# Altium schematic symbol library Schlib1.SchLib: 390 symbols (part 5 of 5)
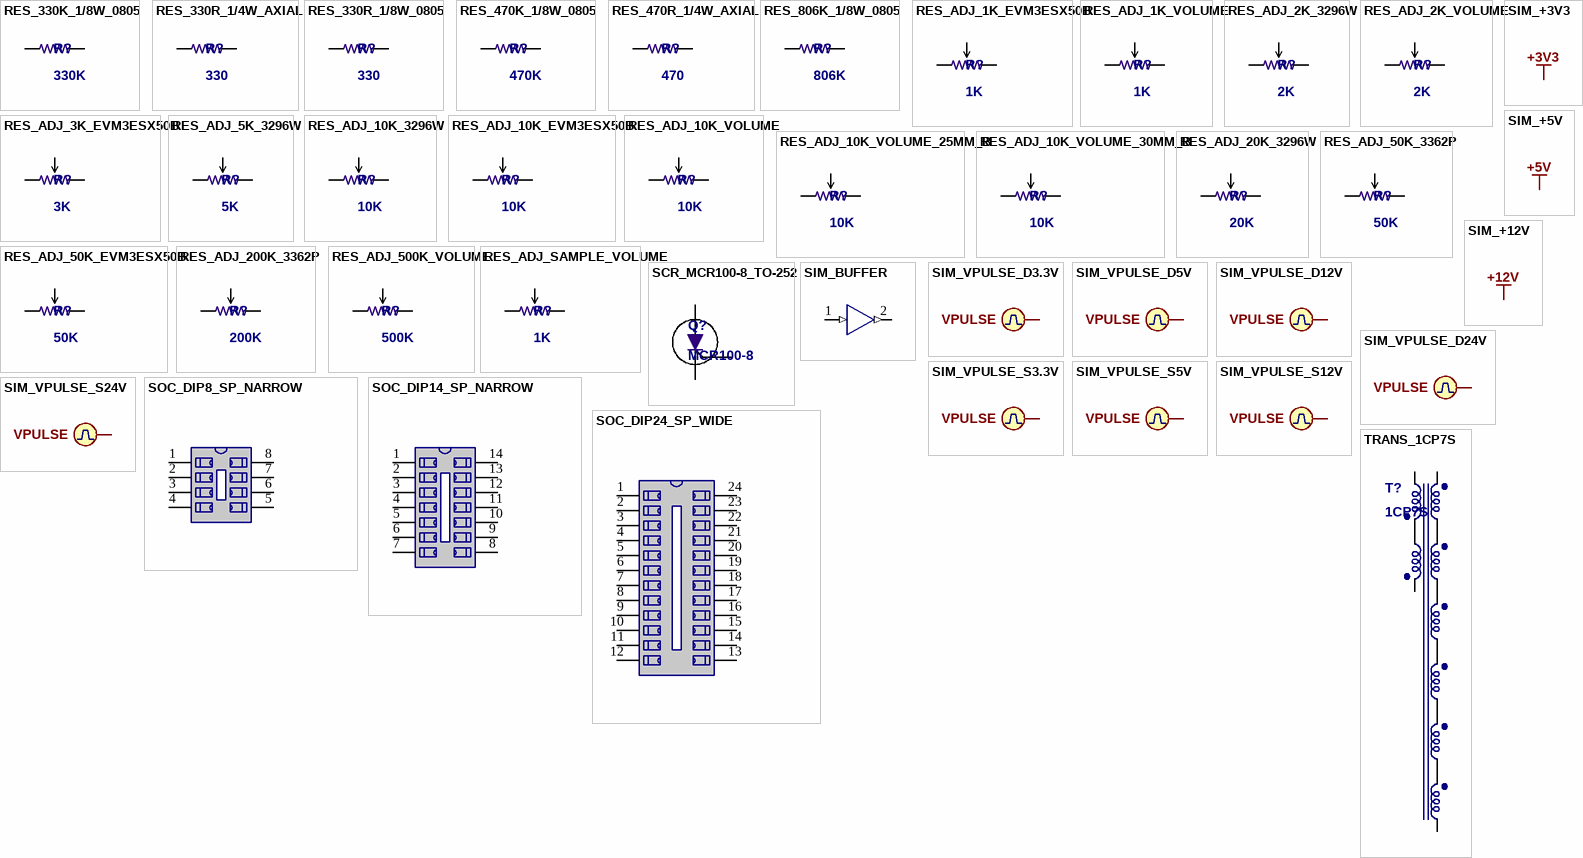
[diagram p14: symbols RES_330K_1/8W_0805 to TRANS_1CP7S]

## RES_ADJ_10K_EVM3ESX50B
designator R?, comment 10K
3mm Square Trimmer Potentiometers, Vmax 50V, Pmax 0.15W; Container: Resistors_Box; Label: EVM3ESX50B14 - 10K; Set Position: 0; Price: 0.067; Package: SMD; Stock: 10; Manufacturer: https://shopee.vn/Set-10-%C4%90i%E1%BB%87n-Tr%E1%BB%9F-3*3-Chuy%C3%AAn-D%E1%BB%A5ng-SMD-3X3-100-500-1K-2K-5K-10K-20K-50K-100K-1M-ohm-i.778834786.20705406854; Temperature Range: -40 to +100 degC; ComponentLink1Description: Datasheet; ComponentLink1URL: E:\NEW_DATA\ELECTRONIC_DOCUMENT\DATASHEET\EVM3ESX50Bxx_Panasonic.pdf; Value: 10K
footprint RES_ADJ_EVM3ESX50B (Variable Resistor)
simulation model RES_ADJ
pins: 1, 2, 3

## RES_ADJ_10K_VOLUME
designator R?, comment 10K
ROTARY POTENTIOMETER (VOLUME CONTROL), Vmax 200V; Container: Resistors_Box; Label: VAR_RES; Set Position: 0; Price: 0.16; Package: TH; Stock: 3; Manufacturer: https://shopee.vn/-3-chi%E1%BA%BFc-(F32)-Bi%E1%BA%BFn-tr%E1%BB%9F-Volume-%C4%91%C6%A1n-(1K-10K-100K)-Ch%E1%BB%8Dn-Lo%E1%BA%A1i--i.29971197.1601313054?sp_atk=a965a421-711c-4c2d-8365-31f56b99aecb&xptdk=a965a421-711c-4c2d-8365-31f56b99aecb; Temperature Range: -40 to +100 degC; ComponentLink1Description: Datasheet; ComponentLink1URL: E:\NEW_DATA\ELECTRONIC_DOCUMENT\DATASHEET\588.pdf; Value: 10K
footprint RES_ADJ_VOLUME
simulation model RES_ADJ
pins: 1, 2, 3

## RES_ADJ_10K_VOLUME_25MM_B
designator R?, comment 10K
ROTARY POTENTIOMETER (VOLUME CONTROL), Vmax 200V; Container: Resistors_Box; Label: VAR_RES; Set Position: 0; Price: 1.21; Package: TH; Stock: 0; Temperature Range: -40 to +100 degC; ComponentLink1Description: Datasheet; ComponentLink1URL: E:\NEW_DATA\ELECTRONIC_DOCUMENT\DATASHEET\588.pdf; Value: 10K; Manufacturer: https://item.taobao.com/item.htm?spm=a1z0d.6639537/tb.1997196601.4.3d385886SOvmT7&id=582251286534
footprint RES_ADJ_VOLUME_25MM_B
simulation model RES_ADJ
pins: 1, 2, 3

## RES_ADJ_10K_VOLUME_30MM_B
designator R?, comment 10K
ROTARY POTENTIOMETER (VOLUME CONTROL), Vmax 200V; Container: Resistors_Box; Label: VAR_RES; Set Position: 0; Price: 1.5; Package: TH; Stock: 0; Temperature Range: -40 to +100 degC; ComponentLink1Description: Datasheet; ComponentLink1URL: E:\NEW_DATA\ELECTRONIC_DOCUMENT\DATASHEET\588.pdf; Value: 10K; Manufacturer: https://item.taobao.com/item.htm?spm=a1z0d.6639537/tb.1997196601.4.3d385886SOvmT7&id=582251286534
footprint RES_ADJ_VOLUME_30MM_B
simulation model RES_ADJ
pins: 1, 2, 3

## RES_ADJ_20K_3296W
designator R?, comment 20K
3296 - 3/8 ˝Square Trimpot ® Trimming Potentiometer, Vmax 500V; Container: Resistors_Box; Label: Fine_Var_Res; Set Position: 0; Price: 0.1; Package: SMD; Stock: 1; Temperature Range: -55 to +155 degC; ComponentLink1Description: Datasheet; ComponentLink1URL: E:\NEW_DATA\ELECTRONIC_DOCUMENT\DATASHEET\3296.pdf; Value: 20K
footprint RES_ADJ_3296W (Variable Resistor)
simulation model RES_ADJ
pins: 1, 2, 3

## RES_ADJ_50K_3362P
designator R?, comment 50K
3362 - 1/4 ˝Square Trimpot ® Trimming Potentiometer, Vmax 500V; Container: Resistors_Box; Label: 50K_Var; Set Position: 0; Price: 0.009; Package: SMD; Stock: 9; Manufacturer: https://shopee.vn/Bi%E1%BA%BFn-Tr%E1%BB%9F-Vu%C3%B4ng-3362P-i.90668226.7235277751; Temperature Range: -55 to +155 degC; ComponentLink1Description: Datasheet; ComponentLink1URL: E:\NEW_DATA\ELECTRONIC_DOCUMENT\DATASHEET\3362.pdf; Value: 50K
footprint RES_ADJ_3362P (Variable Resistor)
simulation model RES_ADJ
pins: 1, 2, 3

## RES_ADJ_50K_EVM3ESX50B
designator R?, comment 50K
3mm Square Trimmer Potentiometers, Vmax 50V, Pmax 0.15W; Container: Resistors_Box; Label: EVM3ESX50B54 - 50K; Set Position: 0; Price: 0.067; Package: SMD; Stock: 10; Manufacturer: https://shopee.vn/Set-10-%C4%90i%E1%BB%87n-Tr%E1%BB%9F-3*3-Chuy%C3%AAn-D%E1%BB%A5ng-SMD-3X3-100-500-1K-2K-5K-10K-20K-50K-100K-1M-ohm-i.778834786.20705406854; Temperature Range: -40 to +100 degC; ComponentLink1Description: Datasheet; ComponentLink1URL: E:\NEW_DATA\ELECTRONIC_DOCUMENT\DATASHEET\EVM3ESX50Bxx_Panasonic.pdf; Value: 50K
footprint RES_ADJ_EVM3ESX50B (Variable Resistor)
simulation model RES_ADJ
pins: 1, 2, 3

## RES_ADJ_200K_3362P
designator R?, comment 200K
3362 - 1/4 ˝Square Trimpot ® Trimming Potentiometer, Vmax 500V; Container: Resistors_Box; Label: 200K_Var; Value: 50K; Set Position: 0; Price: 0.009; Package: SMD; Stock: 6; Manufacturer: https://shopee.vn/Bi%E1%BA%BFn-Tr%E1%BB%9F-Vu%C3%B4ng-3362P-i.90668226.7235277751; Temperature Range: -55 to +155 degC; ComponentLink1Description: Datasheet; ComponentLink1URL: E:\NEW_DATA\ELECTRONIC_DOCUMENT\DATASHEET\3362.pdf
footprint RES_ADJ_3362P (Variable Resistor)
simulation model RES_ADJ
pins: 1, 2, 3

## RES_ADJ_500K_VOLUME
designator R?, comment 500K
ROTARY POTENTIOMETER (VOLUME CONTROL), Vmax 200V; Container: Resistors_Box; Label: VAR_RES; Set Position: 0; Price: 0.16; Package: TH; Stock: 1; Manufacturer: https://shopee.vn/-3-chi%E1%BA%BFc-(F32)-Bi%E1%BA%BFn-tr%E1%BB%9F-Volume-%C4%91%C6%A1n-(1K-10K-100K)-Ch%E1%BB%8Dn-Lo%E1%BA%A1i--i.29971197.1601313054?sp_atk=a965a421-711c-4c2d-8365-31f56b99aecb&xptdk=a965a421-711c-4c2d-8365-31f56b99aecb; Temperature Range: -40 to +100 degC; ComponentLink1Description: Datasheet; ComponentLink1URL: E:\NEW_DATA\ELECTRONIC_DOCUMENT\DATASHEET\588.pdf; Value: 500K
footprint RES_ADJ_VOLUME
simulation model RES_ADJ
pins: 1, 2, 3

## RES_ADJ_SAMPLE_VOLUME
designator R?, comment 1K
ROTARY POTENTIOMETER (VOLUME CONTROL), Vmax 200V; Container: Resistors_Box; Label: VAR_RES; Set Position: 0; Price: 0; Package: TH; Stock: 0; Temperature Range: -40 to +100 degC; ComponentLink1Description: Datasheet; ComponentLink1URL: E:\NEW_DATA\ELECTRONIC_DOCUMENT\DATASHEET\588.pdf; Value: 1K
simulation model RES_ADJ
footprint RES_ADJ_VOLUME_15MM
footprint RES_ADJ_VOLUME_15MM_B
footprint RES_ADJ_VOLUME_20MM
footprint RES_ADJ_VOLUME_20MM_B
footprint RES_ADJ_VOLUME_25MM
footprint RES_ADJ_VOLUME_25MM_B
footprint RES_ADJ_VOLUME_30MM
footprint RES_ADJ_VOLUME_30MM_B
pins: 1, 2, 3

## SCR_MCR100-8_TO-252
designator Q?, comment MCR100-8
SCR, Thyristor, Vr=600V, It=0.8A.; Container: Transistors_Box; Label: NPN; Price: 0.08; Package: TH; Stock: 0; Manufacturer: https://shopee.vn/-10-CON-(KT1)-SCR-MCR100-8-TO-92-0.8A-600V-(MCR100)-i.29971197.2011961812?sp_atk=2aca4424-f185-4549-846a-07ad0f377c6e&xptdk=2aca4424-f185-4549-846a-07ad0f377c6e; Temperature Range: -40 to +125 degC; ComponentLink1Description: Datasheet; ComponentLink1URL: E:\NEW_DATA\ELECTRONIC_DOCUMENT\DATASHEET\MCR100.pdf
footprint TO92CD
simulation model MCR100-8 (MCR100-8  SCR  A G K  MCE  7-17-95)
pins: 1 A, 2 G, 3 K

## SIM_+3V3
designator S?  (value not drawn)
AC Magnitude: 0; Value: 3.3; AC Phase: 0
simulation model Model Name (Model Description)
pins: +12V_SIM (power), GND (power) hidden to GND
text: +3V3

## SIM_+5V
designator S?  (value not drawn)
AC Magnitude: 0; Value: 5; AC Phase: 0
simulation model Model Name (Model Description)
pins: +12V_SIM (power), GND (power) hidden to GND
text: +5V

## SIM_+12V
designator S?  (value not drawn)
AC Magnitude: 0; Value: 12; AC Phase: 0
simulation model Model Name (Model Description)
pins: +12V_SIM (power), GND (power) hidden to GND
text: +12V

## SIM_BUFFER
designator S?  (value not drawn)
simulation model SIM_BUFFER (Copy from NGSPICE manual)
pins: 1 (in), 2 (out)

## SIM_VPULSE_D3.3V
designator S?  (value not drawn)
Time Delay: 0; Pulsed Value: 3.3; Initial Value: -3.3; Period: 10u; Pulse Width: 5u; Rise Time: 10ns; Fall Time: 10ns
simulation model VPULSE
pins: GND (power) hidden to GND, PULSE (power)
text: VPULSE

## SIM_VPULSE_D5V
designator S?  (value not drawn)
Time Delay: 0; Pulsed Value: 5; Initial Value: -5; Period: 10u; Pulse Width: 5u; Rise Time: 10ns; Fall Time: 10ns
simulation model VPULSE
pins: GND (power) hidden to GND, PULSE (power)
text: VPULSE

## SIM_VPULSE_D12V
designator S?  (value not drawn)
Time Delay: 0; Pulsed Value: 12; Initial Value: -12; Period: 10u; Pulse Width: 5u; Rise Time: 10ns; Fall Time: 10ns
simulation model VPULSE
pins: GND (power) hidden to GND, PULSE (power)
text: VPULSE

## SIM_VPULSE_D24V
designator S?  (value not drawn)
Time Delay: 0; Pulsed Value: 24; Initial Value: -24; Period: 10u; Pulse Width: 5u; Rise Time: 10ns; Fall Time: 10ns
simulation model VPULSE
pins: GND (power) hidden to GND, PULSE (power)
text: VPULSE

## SIM_VPULSE_S3.3V
designator S?  (value not drawn)
Time Delay: 0; Pulsed Value: 3.3; Period: 10u; Pulse Width: 5u; Rise Time: 10ns; Initial Value: 0; Fall Time: 10ns
simulation model VPULSE
pins: GND (power) hidden to GND, PULSE (power)
text: VPULSE

## SIM_VPULSE_S5V
designator S?  (value not drawn)
Time Delay: 0; Pulsed Value: 5; Period: 10u; Pulse Width: 5u; Rise Time: 10ns; Initial Value: 0; Fall Time: 10ns
simulation model VPULSE
pins: GND (power) hidden to GND, PULSE (power)
text: VPULSE

## SIM_VPULSE_S12V
designator S?  (value not drawn)
Time Delay: 0; Pulsed Value: 12; Period: 10u; Pulse Width: 5u; Rise Time: 10ns; Initial Value: 0; Fall Time: 10ns
simulation model VPULSE
pins: GND (power) hidden to GND, PULSE (power)
text: VPULSE

## SIM_VPULSE_S24V
designator S?  (value not drawn)
Time Delay: 0; Pulsed Value: 24; Period: 10u; Pulse Width: 5u; Rise Time: 10ns; Initial Value: 0; Fall Time: 10ns
simulation model VPULSE
pins: GND (power) hidden to GND, PULSE (power)
text: VPULSE

## SOC_DIP8_SP_NARROW
designator U?, comment DIP8
Stamped Dual Wipe Contact DIP Sockets; Container: Connector_Fuse_Box; Label: DIP8-SP; Price: 0.031; Package: TH; Manufacturer: https://shopee.vn/B%E1%BB%99-10-Chi%E1%BA%BFc-%C4%90%E1%BA%BF-IC-8-Ch%C3%A2n-DIP8-Lo%E1%BA%A1i-D%E1%BA%B9p-Nh%E1%BB%B1a-%C4%90en-Linh-Ki%E1%BB%87n-%C4%90i%E1%BB%87n-T%E1%BB%AD-i.362653496.9360546609?sp_atk=2ef37314-44ce-43bd-bb32-5746acf290d4&xptdk=2ef37314-44ce-43bd-bb32-5746acf290d4; Temperature Range: -25 to +85 degC; ComponentLink1Description: Datasheet; ComponentLink1URL: E:\NEW_DATA\ELECTRONIC_DOCUMENT\DATASHEET\19430.pdf; Stock: 96
footprint DIP8-SOCKET (DIP, 8-Leads, Row Spacing 7.62mm, Pitch 2.54mm, Body 9.91x6.73mm)
pins: 1, 2, 3, 4, 5, 6, 7, 8

## SOC_DIP14_SP_NARROW
designator U?, comment DIP14
Stamped Dual Wipe Contact DIP Sockets; Container: Connector_Fuse_Box; Label: DIP14-SP; Price: 0.026; Package: TH; Stock: 17; Manufacturer: https://shopee.vn/-COMBO-20-%C4%90%E1%BA%BF-IC-14-Ch%C3%A2n-IC-Socket-14-Pin-DIP-14-Lo%E1%BA%A1i-D%E1%BA%B9t-(M%E1%BB%9Bi)-i.362653496.17257331136?sp_atk=0a78bf65-f067-44d2-8816-5eb9d374c1c8&xptdk=0a78bf65-f067-44d2-8816-5eb9d374c1c8; Temperature Range: -25 to +85 degC; ComponentLink1Description: Datasheet; ComponentLink1URL: E:\NEW_DATA\ELECTRONIC_DOCUMENT\DATASHEET\19430.pdf
footprint DIP14_SOCKET
pins: 1, 2, 3, 4, 5, 6, 7, 8, 9, 10, 11, 12, 13, 14

## SOC_DIP24_SP_WIDE
designator U?, comment DIP14
Stamped Dual Wipe Contact DIP Sockets; Container: Connector_Fuse_Box; Label: DIP24-SP_WIDE; Price: 0.174; Package: TH; Stock: 1; Manufacturer: https://shopee.vn/%C4%90%E1%BA%BF-IC-24-ch%C3%A2n-DIP-24-lo%E1%BA%A1i-d%E1%BA%B9p-b%E1%BA%A3n-to-i.67030960.19036388572?sp_atk=cb3d6179-846a-481e-a18a-c0705ad0b525&xptdk=cb3d6179-846a-481e-a18a-c0705ad0b525; Temperature Range: -25 to +85 degC; ComponentLink1Description: Datasheet; ComponentLink1URL: E:\NEW_DATA\ELECTRONIC_DOCUMENT\DATASHEET\19430.pdf
footprint DIP24/W0.6 (DIP24/W.600, Pin to pin 100mil)
pins: 1, 2, 3, 4, 5, 6, 7, 8, 9, 10, 11, 12, 13, 14, 15, 16, 17, 18, 19, 20, 21, 22, 23, 24

## TRANS_1CP7S
designator T?, comment 1CP7S
Transformer 1CP7S; RATIO1: 1; RPRI: 0.1; L1: 1u; XM: 50u; RCORE: 200K; RATIO2: 1; RATIO3: 1; RATIO4: 1; R2D: 0.1; R3D: 0.1; R4D: 0.1; R5D: 0.1; X2D: 1u; X3D: 1u; X4D: 1u; X5D: 1u; RATIO5: 1; RATIO6: 1; R6D: 1u; R7D: 1u; X6D: 1u; X7D: 1u
simulation model NI1P7STRANS (Non-ideal 1P7S)
pins: 1, 2, 3, 4, 5, 6, 7, 8, 9, 10, 11, 12, 13, 14, O1, O2

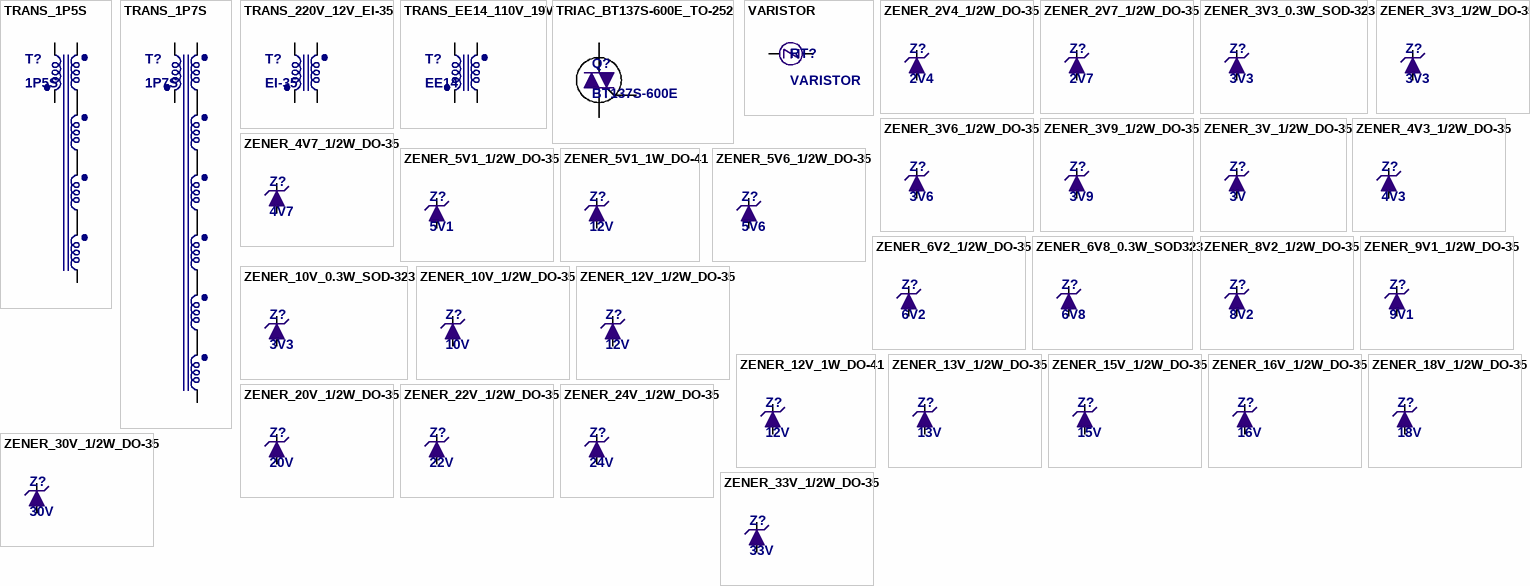
[diagram p10: symbols TRANS_1P5S to ZENER_33V_1/2W_DO-35]

## TRANS_1P5S
designator T?, comment 1P5S
Transformer 1P5S; RATIO1: 1; RPRI: 0.1; L1: 1u; XM: 50u; RCORE: 200K; RATIO2: 1; RATIO3: 1; RATIO4: 1; R2D: 0.1; R3D: 0.1; R4D: 0.1; R5D: 0.1; X2D: 1u; X3D: 1u; X4D: 1u; X5D: 1u
simulation model NI1P5STRANS (Non-ideal 1P5S)
pins: 1, 2, 3, 4, 5, 6, 7, 8, 9, 10

## TRANS_1P7S
designator T?, comment 1P7S
Transformer 1P7S; RATIO1: 1; RPRI: 0.1; L1: 1u; XM: 50u; RCORE: 200K; RATIO2: 1; RATIO3: 1; RATIO4: 1; R2D: 0.1; R3D: 0.1; R4D: 0.1; R5D: 0.1; X2D: 1u; X3D: 1u; X4D: 1u; X5D: 1u; RATIO5: 1; RATIO6: 1; R6D: 1u; R7D: 1u; X6D: 1u; X7D: 1u
simulation model NI1P7STRANS (Non-ideal 1P5S)
footprint TRANS_CUSTOM_1
pins: 1, 2, 3, 4, 5, 6, 7, 8, 9, 10, 11, 12, 13, 14

## TRANS_220V_12V_EI-35
designator T?, comment EI-35
Transformer 1P1S 220VAC-12VAC; Container: Inductors_Box; Label: LOWF_TRANS; Price: 1.2; Package: TH; Stock: 1; Manufacturer: https://shopee.vn/Set-5-bi%E1%BA%BFn-%C3%A1p-EE14-1300-8-Ohm-i.502222046.11461666828; Temperature Range: -55 to +150 degC; ComponentLink1Description: Datasheet; ComponentLink1URL: E:\NEW_DATA\ELECTRONIC_DOCUMENT\DATASHEET\EI35.png
footprint 12_SOLDER_TRANS
pins: 1, 2, 3, 4

## TRANS_EE14_110V_19V
designator T?, comment EE14
Transformer 1P1S 1300:8, 110VAC to 19VAC ~ 50Hz.; Container: Inductors_Box; Price: 0.4; Package: TH; Stock: 5; Label: 1300:8; Manufacturer: https://shopee.vn/Set-5-bi%E1%BA%BFn-%C3%A1p-EE14-1300-8-Ohm-i.502222046.11461666828; Temperature Range: -55 to +150 degC; ComponentLink1Description: Datasheet; ComponentLink1URL: E:\NEW_DATA\ELECTRONIC_DOCUMENT\DATASHEET\EE14_1300_8.png
pins: 1, 2, 3, 4

## TRIAC_BT137S-600E_TO-252
designator Q?, comment BT137S-600E
4Q Triac, Vr=600V, It=8A; Container: Transistors_Box; Label: NPN; Price: 0.07; Package: SMD; Stock: 4; Manufacturer: https://shopee.vn/B%E1%BB%99-10-M%E1%BA%A1ch-BT136S-600E-BT137S-600E-136S-600E-137S-600E-BT136S-600-BT137S-600-TO-252-TO252-i.778834786.17075451193?sp_atk=2273a0f4-6e31-4499-9ec3-4588bc4570ea&xptdk=2273a0f4-6e31-4499-9ec3-4588bc4570ea; Temperature Range: -40 to +125 degC; ComponentLink1Description: Datasheet; ComponentLink1URL: E:\NEW_DATA\ELECTRONIC_DOCUMENT\DATASHEET\2724502.pdf
footprint TO252AA
footprint SOT233
footprint TO252
pins: 1 T1, 2 T2, 3 G

## VARISTOR
designator RT?
Varistor 14K; Price: 0.005; Package: TH
footprint AXIAL-0.4 (Axial Device, Thru-Hole; 2 Leads; 0.4 in Pin Spacing)
footprint RES-SMD-0201
footprint RES-SMD-0402
footprint RES-SMD-0603
footprint RES-SMD-0805
footprint RES-SMD-01005
footprint RES-SMD-1206
footprint RES-SMD-1210 (Chip Capacitor, Body 3.2x2.5mm, IPC Medium Density)
footprint RES-SMD-1812 (Chip Capacitor, Body 3.2x2.5mm, IPC Medium Density)
footprint RES-SMD-2010 (Chip Capacitor, Body 3.2x2.5mm, IPC Medium Density)
footprint RES-SMD-2512 (Chip Capacitor, Body 3.2x2.5mm, IPC Medium Density)
pins: 1, 2

## ZENER_2V4_1/2W_DO-35
designator Z?, comment 2V4
SILIICON PLANAR ZENER DIODES; Power: 500mW; Container: Diodes_Box; Label: V0334_DO-35; Price: 0.01; Stock: 10; Manufacturer: https://shopee.vn/Set-270-%C4%91i-%E1%BB%91t-%E1%BB%95n-%C3%A1p-(2V4-33V)-1-2W-chuy%C3%AAn-d%E1%BB%A5ng-i.101758806.1635771682; ComponentLink1Description: Datasheet; ComponentLink1URL: E:\NEW_DATA\ELECTRONIC_DOCUMENT\DATASHEET\bzx55c.pdf; Package: TH; Temperature Range: -65 to +175 degC
footprint DIO-SMD-106
footprint DIO-SMD-123
footprint DO-35 (Diode, Axial; Body 3.8 x 1.9 mm (LxDia. max), Lead Dia. 0.53 mm (max))
pins: 1, 2

## ZENER_2V7_1/2W_DO-35
designator Z?, comment 2V7
SILIICON PLANAR ZENER DIODES; Power: 500mW; Container: Diodes_Box; Label: V0334_DO-35; Price: 0.01; Stock: 20; Manufacturer: https://shopee.vn/Set-270-%C4%91i-%E1%BB%91t-%E1%BB%95n-%C3%A1p-(2V4-33V)-1-2W-chuy%C3%AAn-d%E1%BB%A5ng-i.101758806.1635771682; ComponentLink1Description: Datasheet; ComponentLink1URL: E:\NEW_DATA\ELECTRONIC_DOCUMENT\DATASHEET\bzx55c.pdf; Package: TH; Temperature Range: -65 to +175 degC
footprint DIO-SMD-106
footprint DIO-SMD-123
footprint DO-35 (Diode, Axial; Body 3.8 x 1.9 mm (LxDia. max), Lead Dia. 0.53 mm (max))
pins: 1, 2

## ZENER_3V3_0.3W_SOD-323
designator Z?, comment 3V3
Voltage regulator diodes, BZX384 series; Power: 300mW; Container: Diodes_Box; Label: BZT52C3V3; Vbreak: 3.3; Price: 0.008; Stock: 100; Manufacturer: https://shopee.vn/Set-100-%C4%90i%E1%BB%91t-SMD-0805-0.25W-BZT52C10V-3V3-7V5-6V8-5V6-5V1-4V7-12V-10V-15V-16V-18V-20V-24V-SOD-323-i.778834786.18605884639; ComponentLink1Description: Datasheet; ComponentLink1URL: E:\NEW_DATA\ELECTRONIC_DOCUMENT\DATASHEET\0900766b813e43ab.pdf; Package: SMD; Temperature Range: -65 to +150 degC
footprint DIO-SMD-106
footprint DIO-SMD-123
simulation model BZT52 (BZT52-C10)
pins: 1, 2

## ZENER_3V3_1/2W_DO-35
designator Z?, comment 3V3
SILIICON PLANAR ZENER DIODES; Power: 500mW; Container: Diodes_Box; Label: V0334_DO-35; Price: 0.01; Stock: 10; Manufacturer: https://shopee.vn/Set-270-%C4%91i-%E1%BB%91t-%E1%BB%95n-%C3%A1p-(2V4-33V)-1-2W-chuy%C3%AAn-d%E1%BB%A5ng-i.101758806.1635771682; ComponentLink1Description: Datasheet; ComponentLink1URL: E:\NEW_DATA\ELECTRONIC_DOCUMENT\DATASHEET\bzx55c.pdf; Package: TH; Temperature Range: -65 to +175 degC
footprint DIO-SMD-106
footprint DIO-SMD-123
footprint DO-35 (Diode, Axial; Body 3.8 x 1.9 mm (LxDia. max), Lead Dia. 0.53 mm (max))
pins: 1, 2

## ZENER_3V6_1/2W_DO-35
designator Z?, comment 3V6
SILIICON PLANAR ZENER DIODES; Power: 500mW; Container: Diodes_Box; Label: V0334_DO-35; Price: 0.01; Stock: 10; Manufacturer: https://shopee.vn/Set-270-%C4%91i-%E1%BB%91t-%E1%BB%95n-%C3%A1p-(2V4-33V)-1-2W-chuy%C3%AAn-d%E1%BB%A5ng-i.101758806.1635771682; ComponentLink1Description: Datasheet; ComponentLink1URL: E:\NEW_DATA\ELECTRONIC_DOCUMENT\DATASHEET\bzx55c.pdf; Package: TH; Temperature Range: -65 to +175 degC
footprint DIO-SMD-106
footprint DIO-SMD-123
footprint DO-35 (Diode, Axial; Body 3.8 x 1.9 mm (LxDia. max), Lead Dia. 0.53 mm (max))
pins: 1, 2

## ZENER_3V9_1/2W_DO-35
designator Z?, comment 3V9
SILIICON PLANAR ZENER DIODES; Power: 500mW; Container: Diodes_Box; Label: V0334_DO-35; Price: 0.01; Stock: 10; Manufacturer: https://shopee.vn/Set-270-%C4%91i-%E1%BB%91t-%E1%BB%95n-%C3%A1p-(2V4-33V)-1-2W-chuy%C3%AAn-d%E1%BB%A5ng-i.101758806.1635771682; ComponentLink1Description: Datasheet; ComponentLink1URL: E:\NEW_DATA\ELECTRONIC_DOCUMENT\DATASHEET\bzx55c.pdf; Package: TH; Temperature Range: -65 to +175 degC
footprint DIO-SMD-106
footprint DIO-SMD-123
footprint DO-35 (Diode, Axial; Body 3.8 x 1.9 mm (LxDia. max), Lead Dia. 0.53 mm (max))
pins: 1, 2

## ZENER_3V_1/2W_DO-35
designator Z?, comment 3V
SILIICON PLANAR ZENER DIODES; Power: 500mW; Container: Diodes_Box; Label: V0334_DO-35; Price: 0.01; Stock: 10; Manufacturer: https://shopee.vn/Set-270-%C4%91i-%E1%BB%91t-%E1%BB%95n-%C3%A1p-(2V4-33V)-1-2W-chuy%C3%AAn-d%E1%BB%A5ng-i.101758806.1635771682; ComponentLink1Description: Datasheet; ComponentLink1URL: E:\NEW_DATA\ELECTRONIC_DOCUMENT\DATASHEET\bzx55c.pdf; Package: TH; Temperature Range: -65 to +175 degC
footprint DIO-SMD-106
footprint DIO-SMD-123
footprint DO-35 (Diode, Axial; Body 3.8 x 1.9 mm (LxDia. max), Lead Dia. 0.53 mm (max))
pins: 1, 2

## ZENER_4V3_1/2W_DO-35
designator Z?, comment 4V3
SILIICON PLANAR ZENER DIODES; Power: 500mW; Container: Diodes_Box; Label: V0334_DO-35; Price: 0.01; Stock: 10; Manufacturer: https://shopee.vn/Set-270-%C4%91i-%E1%BB%91t-%E1%BB%95n-%C3%A1p-(2V4-33V)-1-2W-chuy%C3%AAn-d%E1%BB%A5ng-i.101758806.1635771682; ComponentLink1Description: Datasheet; ComponentLink1URL: E:\NEW_DATA\ELECTRONIC_DOCUMENT\DATASHEET\bzx55c.pdf; Package: TH; Temperature Range: -65 to +175 degC
footprint DIO-SMD-106
footprint DIO-SMD-123
footprint DO-35 (Diode, Axial; Body 3.8 x 1.9 mm (LxDia. max), Lead Dia. 0.53 mm (max))
pins: 1, 2

## ZENER_4V7_1/2W_DO-35
designator Z?, comment 4V7
SILIICON PLANAR ZENER DIODES; Power: 500mW; Container: Diodes_Box; Label: V0334_DO-35; Price: 0.01; Stock: 10; Manufacturer: https://shopee.vn/Set-270-%C4%91i-%E1%BB%91t-%E1%BB%95n-%C3%A1p-(2V4-33V)-1-2W-chuy%C3%AAn-d%E1%BB%A5ng-i.101758806.1635771682; ComponentLink1Description: Datasheet; ComponentLink1URL: E:\NEW_DATA\ELECTRONIC_DOCUMENT\DATASHEET\bzx55c.pdf; Package: TH; Temperature Range: -65 to +175 degC
footprint DIO-SMD-106
footprint DIO-SMD-123
footprint DO-35 (Diode, Axial; Body 3.8 x 1.9 mm (LxDia. max), Lead Dia. 0.53 mm (max))
pins: 1, 2

## ZENER_5V1_1/2W_DO-35
designator Z?, comment 5V1
SILIICON PLANAR ZENER DIODES; Power: 500mW; Container: Diodes_Box; Label: V0334_DO-35; Price: 0.01; Stock: 10; Manufacturer: https://shopee.vn/Set-270-%C4%91i-%E1%BB%91t-%E1%BB%95n-%C3%A1p-(2V4-33V)-1-2W-chuy%C3%AAn-d%E1%BB%A5ng-i.101758806.1635771682; ComponentLink1Description: Datasheet; ComponentLink1URL: E:\NEW_DATA\ELECTRONIC_DOCUMENT\DATASHEET\bzx55c.pdf; Package: TH; Temperature Range: -65 to +175 degC
footprint DIO-SMD-106
footprint DIO-SMD-123
footprint DO-35 (Diode, Axial; Body 3.8 x 1.9 mm (LxDia. max), Lead Dia. 0.53 mm (max))
pins: 1, 2

## ZENER_5V1_1W_DO-41
designator Z?, comment 12V
SILIICON PLANAR ZENER DIODES; Container: Diodes_Box; Label: V0515_DO-41; Power: 1W; Price: 0.015; Stock: 200; Manufacturer: https://shopee.vn/100pcs-1W-Zener-diode-DO-41-1N4733A-5.1V-12V-15V-i.101758806.1638754710?sp_atk=0b2f7a3d-6469-4218-80fc-cccbcea9bcf3&xptdk=0b2f7a3d-6469-4218-80fc-cccbcea9bcf3; ComponentLink1Description: Datasheet; ComponentLink1URL: E:\NEW_DATA\ELECTRONIC_DOCUMENT\DATASHEET\1538081.pdf; Package: TH; Temperature Range: -65 to +175 degC
footprint DIO-SMD-106
footprint DIO-SMD-123
footprint DIO-1A-ZEN (Diode 1A, W 100mil, L 350mil)
pins: 1, 2

## ZENER_5V6_1/2W_DO-35
designator Z?, comment 5V6
SILIICON PLANAR ZENER DIODES; Power: 500mW; Container: Diodes_Box; Label: V0334_DO-35; Price: 0.01; Stock: 10; Manufacturer: https://shopee.vn/Set-270-%C4%91i-%E1%BB%91t-%E1%BB%95n-%C3%A1p-(2V4-33V)-1-2W-chuy%C3%AAn-d%E1%BB%A5ng-i.101758806.1635771682; ComponentLink1Description: Datasheet; ComponentLink1URL: E:\NEW_DATA\ELECTRONIC_DOCUMENT\DATASHEET\bzx55c.pdf; Package: TH; Temperature Range: -65 to +175 degC
footprint DIO-SMD-106
footprint DIO-SMD-123
footprint DO-35 (Diode, Axial; Body 3.8 x 1.9 mm (LxDia. max), Lead Dia. 0.53 mm (max))
pins: 1, 2

## ZENER_6V2_1/2W_DO-35
designator Z?, comment 6V2
SILIICON PLANAR ZENER DIODES; Power: 500mW; Container: Diodes_Box; Label: V0334_DO-35; Price: 0.01; Stock: 10; Manufacturer: https://shopee.vn/Set-270-%C4%91i-%E1%BB%91t-%E1%BB%95n-%C3%A1p-(2V4-33V)-1-2W-chuy%C3%AAn-d%E1%BB%A5ng-i.101758806.1635771682; ComponentLink1Description: Datasheet; ComponentLink1URL: E:\NEW_DATA\ELECTRONIC_DOCUMENT\DATASHEET\bzx55c.pdf; Package: TH; Temperature Range: -65 to +175 degC
footprint DIO-SMD-106
footprint DIO-SMD-123
footprint DO-35 (Diode, Axial; Body 3.8 x 1.9 mm (LxDia. max), Lead Dia. 0.53 mm (max))
pins: 1, 2

## ZENER_6V8_0.3W_SOD323
designator Z?, comment 6V8
Voltage regulator diodes, BZX384 series; Power: 300mW; Container: Diodes_Box; Label: BZT52C6V8; Price: 0.008; Stock: 93; Manufacturer: https://shopee.vn/Set-270-%C4%91i-%E1%BB%91t-%E1%BB%95n-%C3%A1p-(2V4-33V)-1-2W-chuy%C3%AAn-d%E1%BB%A5ng-i.101758806.1635771682; ComponentLink1Description: Datasheet; ComponentLink1URL: E:\NEW_DATA\ELECTRONIC_DOCUMENT\DATASHEET\0900766b813e43ab.pdf; Package: SMD; Temperature Range: -65 to +150 degC
footprint DIO-SMD-106
footprint DIO-SMD-123
pins: 1, 2

## ZENER_8V2_1/2W_DO-35
designator Z?, comment 8V2
SILIICON PLANAR ZENER DIODES; Power: 500mW; Container: Diodes_Box; Label: V0334_DO-35; Price: 0.01; Stock: 10; Manufacturer: https://shopee.vn/Set-270-%C4%91i-%E1%BB%91t-%E1%BB%95n-%C3%A1p-(2V4-33V)-1-2W-chuy%C3%AAn-d%E1%BB%A5ng-i.101758806.1635771682; ComponentLink1Description: Datasheet; ComponentLink1URL: E:\NEW_DATA\ELECTRONIC_DOCUMENT\DATASHEET\bzx55c.pdf; Package: TH; Temperature Range: -65 to +175 degC
footprint DIO-SMD-106
footprint DIO-SMD-123
footprint DO-35 (Diode, Axial; Body 3.8 x 1.9 mm (LxDia. max), Lead Dia. 0.53 mm (max))
pins: 1, 2

## ZENER_9V1_1/2W_DO-35
designator Z?, comment 9V1
SILIICON PLANAR ZENER DIODES; Power: 500mW; Container: Diodes_Box; Label: V0334_DO-35; Price: 0.01; Stock: 18; Manufacturer: https://shopee.vn/Set-270-%C4%91i-%E1%BB%91t-%E1%BB%95n-%C3%A1p-(2V4-33V)-1-2W-chuy%C3%AAn-d%E1%BB%A5ng-i.101758806.1635771682; ComponentLink1Description: Datasheet; ComponentLink1URL: E:\NEW_DATA\ELECTRONIC_DOCUMENT\DATASHEET\bzx55c.pdf; Package: TH; Temperature Range: -65 to +175 degC
footprint DIO-SMD-106
footprint DIO-SMD-123
footprint DO-35 (Diode, Axial; Body 3.8 x 1.9 mm (LxDia. max), Lead Dia. 0.53 mm (max))
pins: 1, 2

## ZENER_10V_0.3W_SOD-323
designator Z?, comment 3V3
Voltage regulator diodes, BZX384 series; Power: 300mW; Container: Diodes_Box; Label: BZT52C10V; Vbreak: 10; Price: 0.008; Stock: 99; Manufacturer: https://shopee.vn/Set-100-%C4%90i%E1%BB%91t-SMD-0805-0.25W-BZT52C10V-3V3-7V5-6V8-5V6-5V1-4V7-12V-10V-15V-16V-18V-20V-24V-SOD-323-i.778834786.18605884639; ComponentLink1Description: Datasheet; ComponentLink1URL: E:\NEW_DATA\ELECTRONIC_DOCUMENT\DATASHEET\0900766b813e43ab.pdf; Package: SMD; Temperature Range: -65 to +150 degC
footprint DIO-SMD-106
footprint DIO-SMD-123
simulation model BZT52 (BZT52-C10)
pins: 1, 2

## ZENER_10V_1/2W_DO-35
designator Z?, comment 10V
SILIICON PLANAR ZENER DIODES; Power: 500mW; Container: Diodes_Box; Label: V0334_DO-35; Price: 0.01; Stock: 10; Manufacturer: https://shopee.vn/Set-270-%C4%91i-%E1%BB%91t-%E1%BB%95n-%C3%A1p-(2V4-33V)-1-2W-chuy%C3%AAn-d%E1%BB%A5ng-i.101758806.1635771682; ComponentLink1Description: Datasheet; ComponentLink1URL: E:\NEW_DATA\ELECTRONIC_DOCUMENT\DATASHEET\bzx55c.pdf; Package: TH; Temperature Range: -65 to +175 degC
footprint DIO-SMD-106
footprint DIO-SMD-123
footprint DO-35 (Diode, Axial; Body 3.8 x 1.9 mm (LxDia. max), Lead Dia. 0.53 mm (max))
pins: 1, 2

## ZENER_12V_1/2W_DO-35
designator Z?, comment 12V
SILIICON PLANAR ZENER DIODES; Power: 500mW; Container: Diodes_Box; Label: V0334_DO-35; Price: 0.01; Stock: 10; Manufacturer: https://shopee.vn/Set-270-%C4%91i-%E1%BB%91t-%E1%BB%95n-%C3%A1p-(2V4-33V)-1-2W-chuy%C3%AAn-d%E1%BB%A5ng-i.101758806.1635771682; ComponentLink1Description: Datasheet; ComponentLink1URL: E:\NEW_DATA\ELECTRONIC_DOCUMENT\DATASHEET\bzx55c.pdf; Package: TH; Temperature Range: -65 to +175 degC
footprint DIO-SMD-106
footprint DIO-SMD-123
footprint DO-35 (Diode, Axial; Body 3.8 x 1.9 mm (LxDia. max), Lead Dia. 0.53 mm (max))
pins: 1, 2

## ZENER_12V_1W_DO-41
designator Z?, comment 12V
SILIICON PLANAR ZENER DIODES; Container: Diodes_Box; Label: V0079_DO-41; Power: 1W; Price: 0.015; Stock: 197; Manufacturer: https://shopee.vn/100pcs-1W-Zener-diode-DO-41-1N4733A-5.1V-12V-15V-i.101758806.1638754710?sp_atk=0b2f7a3d-6469-4218-80fc-cccbcea9bcf3&xptdk=0b2f7a3d-6469-4218-80fc-cccbcea9bcf3; ComponentLink1Description: Datasheet; ComponentLink1URL: E:\NEW_DATA\ELECTRONIC_DOCUMENT\DATASHEET\1538081.pdf; Package: TH; Temperature Range: -65 to +175 degC
footprint DIO-SMD-106
footprint DIO-SMD-123
footprint DIO-1A-ZEN (Diode 1A, W 100mil, L 350mil)
pins: 1, 2

## ZENER_13V_1/2W_DO-35
designator Z?, comment 13V
SILIICON PLANAR ZENER DIODES; Power: 500mW; Container: Diodes_Box; Label: V0334_DO-35; Price: 0.01; Stock: 8; Manufacturer: https://shopee.vn/Set-270-%C4%91i-%E1%BB%91t-%E1%BB%95n-%C3%A1p-(2V4-33V)-1-2W-chuy%C3%AAn-d%E1%BB%A5ng-i.101758806.1635771682; ComponentLink1Description: Datasheet; ComponentLink1URL: E:\NEW_DATA\ELECTRONIC_DOCUMENT\DATASHEET\bzx55c.pdf; Package: TH; Temperature Range: -65 to +175 degC
footprint DIO-SMD-106
footprint DIO-SMD-123
footprint DO-35 (Diode, Axial; Body 3.8 x 1.9 mm (LxDia. max), Lead Dia. 0.53 mm (max))
pins: 1, 2

## ZENER_15V_1/2W_DO-35
designator Z?, comment 15V
SILIICON PLANAR ZENER DIODES; Power: 500mW; Container: Diodes_Box; Label: V0334_DO-35; Price: 0.01; Stock: 7; Manufacturer: https://shopee.vn/Set-270-%C4%91i-%E1%BB%91t-%E1%BB%95n-%C3%A1p-(2V4-33V)-1-2W-chuy%C3%AAn-d%E1%BB%A5ng-i.101758806.1635771682; ComponentLink1Description: Datasheet; ComponentLink1URL: E:\NEW_DATA\ELECTRONIC_DOCUMENT\DATASHEET\bzx55c.pdf; Package: TH; Temperature Range: -65 to +175 degC
footprint DIO-SMD-106
footprint DIO-SMD-123
footprint DO-35 (Diode, Axial; Body 3.8 x 1.9 mm (LxDia. max), Lead Dia. 0.53 mm (max))
pins: 1, 2

## ZENER_16V_1/2W_DO-35
designator Z?, comment 16V
SILIICON PLANAR ZENER DIODES; Power: 500mW; Container: Diodes_Box; Label: V0334_DO-35; Price: 0.01; Stock: 6; Manufacturer: https://shopee.vn/Set-270-%C4%91i-%E1%BB%91t-%E1%BB%95n-%C3%A1p-(2V4-33V)-1-2W-chuy%C3%AAn-d%E1%BB%A5ng-i.101758806.1635771682; ComponentLink1Description: Datasheet; ComponentLink1URL: E:\NEW_DATA\ELECTRONIC_DOCUMENT\DATASHEET\bzx55c.pdf; Package: TH; Temperature Range: -65 to +175 degC
footprint DIO-SMD-106
footprint DIO-SMD-123
footprint DO-35 (Diode, Axial; Body 3.8 x 1.9 mm (LxDia. max), Lead Dia. 0.53 mm (max))
pins: 1, 2

## ZENER_18V_1/2W_DO-35
designator Z?, comment 18V
SILIICON PLANAR ZENER DIODES; Power: 500mW; Container: Diodes_Box; Label: V0334_DO-35; Price: 0.01; Stock: 10; Manufacturer: https://shopee.vn/Set-270-%C4%91i-%E1%BB%91t-%E1%BB%95n-%C3%A1p-(2V4-33V)-1-2W-chuy%C3%AAn-d%E1%BB%A5ng-i.101758806.1635771682; ComponentLink1Description: Datasheet; ComponentLink1URL: E:\NEW_DATA\ELECTRONIC_DOCUMENT\DATASHEET\bzx55c.pdf; Package: TH; Temperature Range: -65 to +175 degC
footprint DIO-SMD-106
footprint DIO-SMD-123
footprint DO-35 (Diode, Axial; Body 3.8 x 1.9 mm (LxDia. max), Lead Dia. 0.53 mm (max))
pins: 1, 2

## ZENER_20V_1/2W_DO-35
designator Z?, comment 20V
SILIICON PLANAR ZENER DIODES; Power: 500mW; Container: Diodes_Box; Label: V0334_DO-35; Price: 0.01; Stock: 10; Manufacturer: https://shopee.vn/Set-270-%C4%91i-%E1%BB%91t-%E1%BB%95n-%C3%A1p-(2V4-33V)-1-2W-chuy%C3%AAn-d%E1%BB%A5ng-i.101758806.1635771682; ComponentLink1Description: Datasheet; ComponentLink1URL: E:\NEW_DATA\ELECTRONIC_DOCUMENT\DATASHEET\bzx55c.pdf; Package: TH; Temperature Range: -65 to +175 degC
footprint DIO-SMD-106
footprint DIO-SMD-123
footprint DO-35 (Diode, Axial; Body 3.8 x 1.9 mm (LxDia. max), Lead Dia. 0.53 mm (max))
pins: 1, 2

## ZENER_22V_1/2W_DO-35
designator Z?, comment 22V
SILIICON PLANAR ZENER DIODES; Power: 500mW; Container: Diodes_Box; Label: V0334_DO-35; Price: 0.01; Stock: 10; Manufacturer: https://shopee.vn/Set-270-%C4%91i-%E1%BB%91t-%E1%BB%95n-%C3%A1p-(2V4-33V)-1-2W-chuy%C3%AAn-d%E1%BB%A5ng-i.101758806.1635771682; ComponentLink1Description: Datasheet; ComponentLink1URL: E:\NEW_DATA\ELECTRONIC_DOCUMENT\DATASHEET\bzx55c.pdf; Package: TH; Temperature Range: -65 to +175 degC
footprint DIO-SMD-106
footprint DIO-SMD-123
footprint DO-35 (Diode, Axial; Body 3.8 x 1.9 mm (LxDia. max), Lead Dia. 0.53 mm (max))
pins: 1, 2

## ZENER_24V_1/2W_DO-35
designator Z?, comment 24V
SILIICON PLANAR ZENER DIODES; Power: 500mW; Container: Diodes_Box; Label: V0334_DO-35; Price: 0.01; Stock: 10; Manufacturer: https://shopee.vn/Set-270-%C4%91i-%E1%BB%91t-%E1%BB%95n-%C3%A1p-(2V4-33V)-1-2W-chuy%C3%AAn-d%E1%BB%A5ng-i.101758806.1635771682; ComponentLink1Description: Datasheet; ComponentLink1URL: E:\NEW_DATA\ELECTRONIC_DOCUMENT\DATASHEET\bzx55c.pdf; Package: TH; Temperature Range: -65 to +175 degC
footprint DIO-SMD-106
footprint DIO-SMD-123
footprint DO-35 (Diode, Axial; Body 3.8 x 1.9 mm (LxDia. max), Lead Dia. 0.53 mm (max))
pins: 1, 2

## ZENER_30V_1/2W_DO-35
designator Z?, comment 30V
SILIICON PLANAR ZENER DIODES; Power: 500mW; Container: Diodes_Box; Label: V0334_DO-35; Price: 0.01; Stock: 10; Manufacturer: https://shopee.vn/Set-270-%C4%91i-%E1%BB%91t-%E1%BB%95n-%C3%A1p-(2V4-33V)-1-2W-chuy%C3%AAn-d%E1%BB%A5ng-i.101758806.1635771682; ComponentLink1Description: Datasheet; ComponentLink1URL: E:\NEW_DATA\ELECTRONIC_DOCUMENT\DATASHEET\bzx55c.pdf; Package: TH; Temperature Range: -65 to +175 degC
footprint DIO-SMD-106
footprint DIO-SMD-123
footprint DO-35 (Diode, Axial; Body 3.8 x 1.9 mm (LxDia. max), Lead Dia. 0.53 mm (max))
pins: 1, 2

## ZENER_33V_1/2W_DO-35
designator Z?, comment 33V
SILIICON PLANAR ZENER DIODES; Power: 500mW; Container: Diodes_Box; Label: V0334_DO-35; Price: 0.01; Stock: 10; Manufacturer: https://shopee.vn/Set-270-%C4%91i-%E1%BB%91t-%E1%BB%95n-%C3%A1p-(2V4-33V)-1-2W-chuy%C3%AAn-d%E1%BB%A5ng-i.101758806.1635771682; ComponentLink1Description: Datasheet; ComponentLink1URL: E:\NEW_DATA\ELECTRONIC_DOCUMENT\DATASHEET\bzx55c.pdf; Package: TH; Temperature Range: -65 to +175 degC
footprint DIO-SMD-106
footprint DIO-SMD-123
footprint DO-35 (Diode, Axial; Body 3.8 x 1.9 mm (LxDia. max), Lead Dia. 0.53 mm (max))
pins: 1, 2